# Altium footprint library YaoPCB.PCBLIB: 415 footprints (part 20 of 26)
Each footprint in its own frame and in the unit in brackets; x right, y up, seen from the top. Pads: shape width x height; smd on the part's side, far side on the other; paste and mask are expansions set on the pad; w line width, h text height; cw(c..) or ccw(c..) is an arc to the next point about the centre after c.
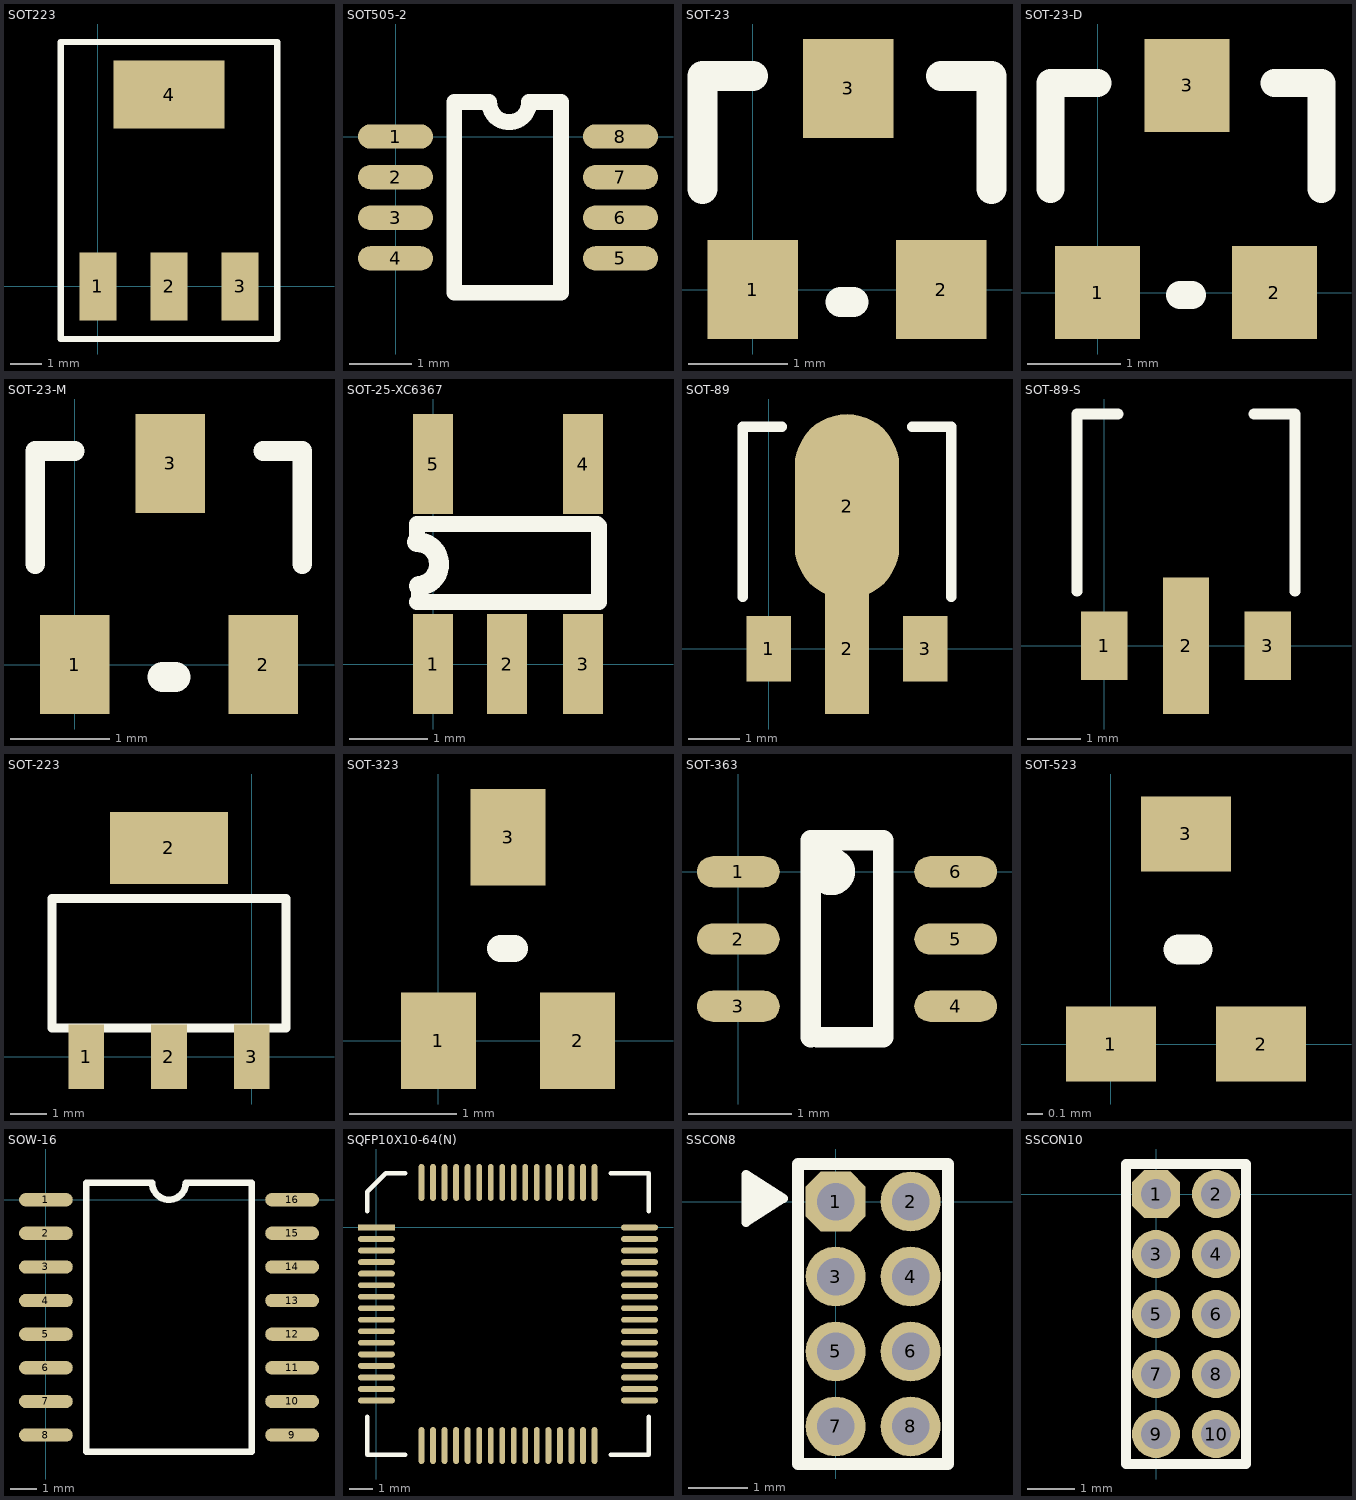
[diagram p19: the footprints below, top view; thin cyan lines are the x and y axes]

## SOT223 [mm]
pads (4):
  rect 1.2x2.2 smd: 1(0,0) 2(2.3,0) 3(4.6,0)
  rect 3.6x2.2 smd: 4(2.3,6.2)
TopOverlay:
  lines w0.2: -1.2,-1.7 -1.2,7.9 5.8,7.9 5.8,-1.7 -1.2,-1.7

## SOT505-2 [mm]
pads (8):
  oval 1.2x0.39 smd: 1(0,0) 2(0,-0.65) 3(0,-1.3) 4(0,-1.95) 5(3.6,-1.95) 6(3.6,-1.3) 7(3.6,-0.65) 8(3.6,0)
TopOverlay:
  lines w0.254: 0.94,-2.5 2.65,-2.5 2.65,0.55 2.139,0.55 cw(c1.819,0.55) 1.499,0.55 0.94,0.55 0.94,-2.5

## SOT-23 [mil]
pads (3):
  rect 36x39.37 smd: 1(0,0) 2(75,0) 3(38,80)
TopOverlay:
  lines w12: -20,40 -20,85 0,85 ; 35,-5 40,-5 ; 75,85 95,85 95,40

## SOT-23-D [mil]
pads (3):
  rect 36x39.37 smd: 1(0,0) 2(75,0) 3(38,87.87)
TopOverlay:
  lines w12: -20,43.94 -20,88.94 0,88.94 ; 35,-1.06 40,-1.06 ; 75,88.94 95,88.94 95,43.94

## SOT-23-M [mm]
pads (3):
  rect 0.7x1 smd: 1(0,0) 2(1.905,0) 3(0.965,2.032)
TopOverlay:
  lines w0.2: -0.4,1.016 -0.4,2.159 0,2.159 ; 1.905,2.159 2.3,2.159 2.3,1.016
  lines w0.305: 0.889,-0.127 1.016,-0.127

## SOT-25-XC6367 [mil]
pads (5):
  rect 20x50 smd: 1(0,0) 2(37,0) 3(75,0) 4(75,100) 5(0,100)
TopOverlay:
  lines w8: -8,31 83,31 83,69 82,70 -8,70 -8,61 ; -7,32 -7,38.95
  lines w10: -8,61 cw(c-8,49.95) -7,38.95

## SOT-89 [mil]
pads (4):
  rect 34x50 smd: 1(0,0) 3(120,0)
  rect 34x100 smd: 2(60,0)
  oval 80x141.73 smd: 2(60,109)
TopOverlay:
  lines w8: -20,40 -20,170 10,170 ; 110,170 140,170 140,40

## SOT-89-S [mil]
pads (3):
  rect 34x50 smd: 1(0,0) 3(120,0)
  rect 34x100 smd: 2(60,0)
TopOverlay:
  lines w8: -20,40 -20,170 10,170 ; 110,170 140,170 140,40

## SOT-223 [mm]
pads (4):
  rect 0.99x1.8 smd: 1(-4.6,0) 2(-2.3,0) 3(0,0)
  rect 3.28x2 smd: 2(-2.3,5.8)
TopOverlay:
  lines w0.254: -5.55,0.8 -5.55,4.4 0.95,4.4 0.95,0.8 -5.55,0.8

## SOT-323 [mm]
pads (3):
  rect 0.7x0.9 smd: 1(0,0) 2(1.3,0) 3(0.65,1.9)
TopOverlay:
  lines w0.254: 0.583,0.86 0.71,0.86

## SOT-363 [mm]
pads (6):
  oval 0.8x0.3 smd: 1(0,0) 2(0,-0.65) 3(0,-1.3) 4(2.1,-1.3) 5(2.1,-0.65) 6(2.1,0)
TopOverlay:
  circle w0.254: c0.9,0 r0.1
  lines w0.2: 0.7,-1.6 0.7,0.305 1.4,0.305 1.4,-1.6 0.762,-1.6

## SOT-523 [mm]
pads (3):
  rect 0.6x0.5 smd: 1(0,0) 2(1,0) 3(0.5,1.4)
TopOverlay:
  lines w0.2: 0.45,0.63 0.577,0.63

## SOW-16 [mm]
pads (16):
  oval 2.032x0.5 smd: 1(0,0) 2(0,-1.27) 3(0,-2.54) 4(0,-3.81) 5(0,-5.08) 6(0,-6.35) 7(0,-7.62) 8(0,-8.89) 9(9.3,-8.89) 10(9.3,-7.62) 11(9.3,-6.35) 12(9.3,-5.08) 13(9.3,-3.81) 14(9.3,-2.54) 15(9.3,-1.27) 16(9.3,0)
TopOverlay:
  lines w0.254: 4.013,0.635 ccw(c4.648,0.635) 5.283,0.635 ; 4.015,0.635 1.524,0.635 1.524,-9.525 7.776,-9.525 7.776,0.635 ; 5.285,0.635 7.772,0.635

## SQFP10X10-64(N) [mm]
pads (64):
  rect 1.6x0.25 smd: 1(0,0)
  oval 1.6x0.25 smd: 2(0,-0.5) 3(0,-1) 4(0,-1.5) 5(0,-2) 6(0,-2.5) 7(0,-3) 8(0,-3.5) 9(0,-4) 10(0,-4.5) 11(0,-5) 12(0,-5.5) 13(0,-6) 14(0,-6.5) 15(0,-7) 16(0,-7.5) 33(11.4,-7.5) 34(11.4,-7) 35(11.4,-6.5) 36(11.4,-6) 37(11.4,-5.5) 38(11.4,-5) 39(11.4,-4.5) 40(11.4,-4) 41(11.4,-3.5) 42(11.4,-3) 43(11.4,-2.5) 44(11.4,-2) 45(11.4,-1.5) 46(11.4,-1) 47(11.4,-0.5) 48(11.4,0)
  oval 0.25x1.6 smd: 17(1.95,-9.45) 18(2.45,-9.45) 19(2.95,-9.45) 20(3.45,-9.45) 21(3.95,-9.45) 22(4.45,-9.45) 23(4.95,-9.45) 24(5.45,-9.45) 25(5.95,-9.45) 26(6.45,-9.45) 27(6.95,-9.45) 28(7.45,-9.45) 29(7.95,-9.45) 30(8.45,-9.45) 31(8.95,-9.45) 32(9.45,-9.45) 49(9.45,1.95) 50(8.95,1.95) 51(8.45,1.95) 52(7.95,1.95) 53(7.45,1.95) 54(6.95,1.95) 55(6.45,1.95) 56(5.95,1.95) 57(5.45,1.95) 58(4.95,1.95) 59(4.45,1.95) 60(3.95,1.95) 61(3.45,1.95) 62(2.95,1.95) 63(2.45,1.95) 64(1.95,1.95)
TopOverlay:
  lines w0.2: -0.4,-8.2 -0.4,-9.85 1.25,-9.85 ; -0.4,0.7 -0.4,1.55 0.4,2.35 1.25,2.35 ; 10.15,-9.85 11.8,-9.85 11.8,-8.2 ; 10.15,2.35 11.8,2.35 11.8,0.7

## SSCON8 [mil]
pads (8):
  oct 40x40 hole 25: 1(0,0)
  round 40 hole 25: 2(50,0) 3(0,-50) 4(50,-50) 5(0,-100) 6(50,-100) 7(0,-150) 8(50,-150)
TopOverlay:
  lines w6: -46.9,2.1 -39.9,2.1 ; -59.9,-13.9 -59.9,18.1 -34.9,2.1 -59.9,-13.9
  lines w8: -25,-175 75,-175 75,25 -25,25 -25,-175
  lines w10: -55.9,-5.9 -55.9,11.1 ; -48.9,-0.9 -48.9,6.1

## SSCON10 [mil]
pads (10):
  oct 40x40 hole 25: 1(0,0)
  round 40 hole 25: 2(50,0) 3(0,-50) 4(50,-50) 5(0,-100) 6(50,-100) 7(0,-150) 8(50,-150) 9(0,-200) 10(50,-200)
TopOverlay:
  lines w8: -25,-225 -25,25 75,25 75,-225 -25,-225